# Altium schematic symbol library SCH - SWITCHES - SPVS320100.SchLib: 1 symbol
Pins are listed as number, name and electrical type; pins without a type are passive.

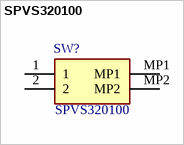
[diagram p0: symbol SPVS320100]

## SPVS320100
designator SW?
pins: 1, 2, MP1, MP2